# Altium schematic symbol library FDA.SchLib: 4 symbols
Pins are listed as number, name and electrical type; pins without a type are passive.

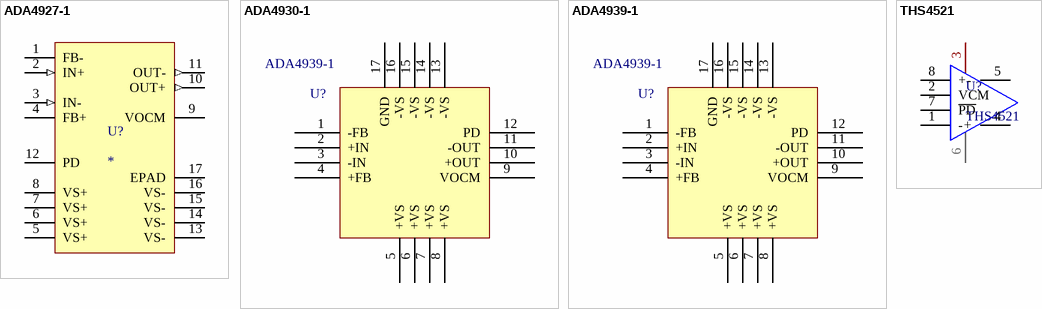
[diagram p0: symbols ADA4927-1 to THS4521]

## ADA4927-1
designator U?
Ultralow Distortion Current Feedback Differential ADC Drive
footprint LFCSP16_N (QFN, 16-Leads, Body 3.00x3.00mm, Pitch 0.50mm, Thermal Pad 1.30x1.30mm, IPC Medium Density)
pins: 1 FB-, 2 IN+ (in), 3 IN- (in), 4 FB+, 5 VS+ (power), 6 VS+ (power), 7 VS+ (power), 8 VS+ (power), 9 VOCM, 10 OUT+ (out), 11 OUT- (out), 12 PD, 13 VS- (power), 14 VS- (power), 15 VS- (power), 16 VS- (power), 17 EPAD (power)

## ADA4930-1
designator U?, comment ADA4939-1
Ultralow Noise Drivers for Low Voltage ADCs
footprint LFCSP16-2_N (QFN, 16-Leads, Body 3.00x3.00mm, Pitch 0.50mm, Thermal Pad 1.70x1.70mm, IPC Medium Density)
pins: 1 -FB, 2 +IN, 3 -IN, 4 +FB, 5 +VS, 6 +VS, 7 +VS, 8 +VS, 9 VOCM, 10 +OUT, 11 -OUT, 12 PD, 13 -VS, 14 -VS, 15 -VS, 16 -VS, 17 GND

## ADA4939-1
designator U?
Ultralow Distortion, Differential ADC Driver
footprint LFCSP16_N (QFN, 16-Leads, Body 3.00x3.00mm, Pitch 0.50mm, Thermal Pad 1.30x1.30mm, IPC Medium Density)
pins: 1 -FB, 2 +IN, 3 -IN, 4 +FB, 5 +VS, 6 +VS, 7 +VS, 8 +VS, 9 VOCM, 10 +OUT, 11 -OUT, 12 PD, 13 -VS, 14 -VS, 15 -VS, 16 -VS, 17 GND

## THS4521
designator U?
Very Low Power, Negative Rail Input, Rail-To-Rail Output, Fully Differential  Amplifier
footprint SOIC8_L (SOIC, 8-Leads, Body 4.9x3.9mm, Pitch 1.27mm, IPC High Density)
footprint SOIC8_M (SOIC, 8-Leads, Body 4.9x3.9mm, Pitch 1.27mm, IPC Low Density)
footprint SOIC8_N (SOIC, 8-Leads, Body 4.9x3.9mm, Pitch 1.27mm, IPC Medium Density)
pins: 1 -, 2 VCM, 3 V+, 4 +, 5 -, 6 V-, 7 ~{PD}, 8 +